# Altium footprint library SMD Diode.PcbLib: 11 footprints
Each footprint in its own frame and in the unit in brackets; x right, y up, seen from the top. Pads: shape width x height; smd on the part's side, far side on the other; paste and mask are expansions set on the pad; w line width, h text height; cw(c..) or ccw(c..) is an arc to the next point about the centre after c.
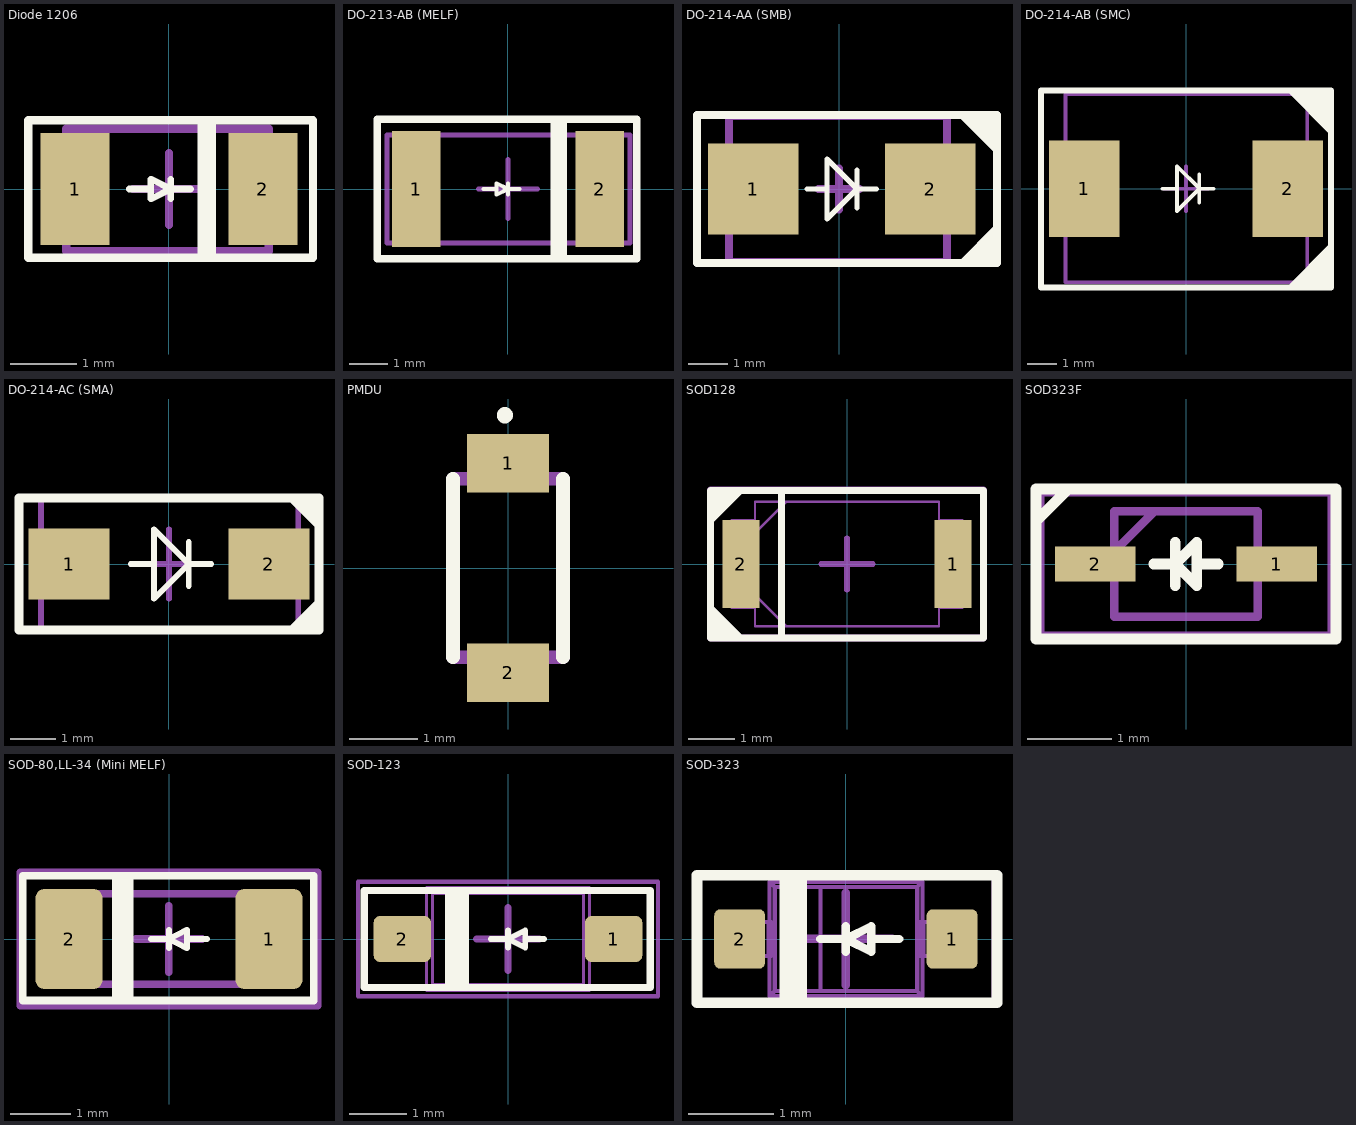
[diagram p0: the footprints below, top view; thin cyan lines are the x and y axes]

## Diode 1206 [mm]
pads (2):
  rect 1.05x1.7 smd: 1(-1.425,0) 2(1.425,0)
Top Overlay:
  rectangle: 0.432,-1.041 0.711,1.041
  lines w0.1: -0.605,0 -0.305,0 ; 0.025,-0.15 0.025,0.15 ; 0.325,0 0.025,0 ; 0.025,0 -0.275,0.15 -0.275,-0.15 0.025,0
  lines w0.127: -2.134,-1.041 -2.134,1.041 2.184,1.041 2.184,-1.041 -2.134,-1.041
Mechanical 15:
  lines w0.127: -0.546,0.001 0.546,0.001 ; 0,-0.546 0,0.546 ; -1.557,-0.945 -1.557,0.914 1.511,0.914 1.511,-0.945 -1.557,-0.945
3D body "User Library-D1206.step": height 0.85, standoff 0, extent -1.67,-0.87 1.68,0.86

## DO-213-AB (MELF) [mm] "Metal Electrode Face (MELF) Diode; Body 5 x 2.5 mm (LxDia)"
height 2.5
pads (2):
  rect 1.25x3 smd: 1(-2.375,0) 2(2.375,0)
Top Overlay:
  rectangle: 1.092,-1.8 1.524,1.8
  lines w0.1: -0.63,0 -0.33,0 ; 0,-0.15 0,0.15 ; 0.3,0 0,0 ; 0,0 -0.3,0.15 -0.3,-0.15 0,0
  lines w0.2: -3.375,-1.8 -3.375,1.8 3.325,1.8 3.325,-1.8 -3.375,-1.8
Mechanical 15:
  lines w0.127: -0.762,0 0.762,0 ; 0,-0.762 0,0.762 ; -3.124,-1.397 3.15,-1.397 3.15,1.397 -3.124,1.397 -3.124,-1.397
3D body "DO-213AB.step": height 2.67, standoff 0, extent -2.6,-1.335 2.6,1.335

## DO-214-AA (SMB) [mm] "DO-214-AA/SMB; 2 C-Bend Leads; Body 5.3 x 3.6 mm, inc. leads (LxW)"
pads (2):
  rect 2.3x2.3 smd: 1(-2.177,0) 2(2.323,0)
Top Overlay:
  region: 4.013,-1.88 2.997,-1.88 4.013,-0.864
  region: 4.013,1.88 4.013,0.864 2.997,1.88
  lines w0.127: -0.813,0 -0.305,0 ; 0.444,-0.003 0.952,-0.003 ; 0.457,-0.483 0.457,0 ; 0.457,0.483 0.457,0 ; 0.457,0 -0.305,-0.762 -0.305,0.762 0.457,0
  lines w0.2: -3.607,-1.88 -3.607,1.88 4.013,1.88 4.013,-1.88 -3.607,-1.88
Mechanical 1:
  lines w0.1: -0.2,0 0.2,0 ; 0,-0.2 0,0.2
Mechanical 15:
  lines w0.2: -0.521,0 0.521,0 ; 0,-0.521 0,0.521 ; -2.794,-1.854 2.743,-1.854 2.743,1.854 -2.794,1.854 -2.794,-1.854
3D body "User Library-DIOM5539X24.STEP": height 2.45, standoff 0.03, extent -2.677,-1.95 2.823,1.95

## DO-214-AB (SMC) [mm] "DO-214-AB/SMC; 2 C-Bend Leads; Body 7.9 x 5.9 mm, inc. leads (LxW)"
height 2.65
pads (2):
  rect 2.4x3.3 smd: 1(-3.475,0) 2(3.475,0)
Top Overlay:
  region: 4.953,3.353 4.953,1.829 3.429,3.353
  region: 4.953,-3.378 3.429,-3.378 4.953,-1.854
  lines w0.127: -0.813,0 -0.305,0 ; 0.444,-0.003 0.952,-0.003 ; 0.457,-0.483 0.457,0 ; 0.457,0.483 0.457,0 ; 0.457,0 -0.305,-0.762 -0.305,0.762 0.457,0
  lines w0.2: -4.953,-3.378 2.223,-3.378 4.953,-3.378 4.953,3.353 1.239,3.353 -4.953,3.353 -4.953,-3.378
Mechanical 1:
  lines w0.1: -0.2,0 0.2,0 ; 0,-0.2 0,0.2
Mechanical 15:
  lines w0.127: -0.762,0 0.762,0 ; 0,-0.762 0,0.762 ; -4.115,-3.2 4.14,-3.2 4.14,3.226 -4.115,3.226 -4.115,-3.2
3D body "User Library-DO-214AB(SMC).STEP": height 2.67, standoff 0.03, extent -4.039,-3.124 4.089,3.175

## DO-214-AC (SMA) [mm]
pads (2):
  rect 1.778x1.55 smd: 1(-2.189,0) 2(2.189,0)
Top Overlay:
  region: 3.289,-1.45 2.555,-1.45 3.289,-0.716
  region: 3.289,1.45 3.289,0.716 2.555,1.45
  lines w0.127: -0.838,0 -0.33,0 ; 0.418,-0.003 0.926,-0.003 ; 0.432,-0.483 0.432,0 ; 0.432,0.483 0.432,0 ; 0.432,0 -0.33,0.762 -0.33,-0.762 0.432,0
  lines w0.2: -3.289,-1.45 -3.289,1.45 0.95,1.45 3.289,1.45 3.289,-1.45 0.876,-1.45 -3.289,-1.45
Mechanical 15:
  lines w0.127: -0.762,0 0.762,0 ; 0,-0.762 0,0.762 ; -2.807,-1.473 2.832,-1.473 2.832,1.473 -2.807,1.473 -2.807,-1.473
3D body "User Library-DO-214AC(SMA).STEP": height 2.29, standoff 0, extent -2.731,-1.397 2.756,1.397

## PMDU [mm]
pads (2):
  rect 1.2x0.85 smd: 1(0,1.525) 2(0,-1.525)
Top Overlay:
  circle w0.2: c-0.045,2.227 r0.018
  lines w0.2: -0.8,-1.3 -0.8,1.3 ; 0.8,-1.3 0.8,1.3
Mechanical 13:
  lines w0.2: -0.8,-1.3 -0.8,1.3 0.8,1.3 0.8,-1.3 -0.8,-1.3
3D body "KDZTR36B.stp": height 0.8, standoff 0, extent -0.8,-1.75 0.8,1.75

## SOD128 [mm]
pads (2):
  rect 0.81x1.905 smd paste+0 mask+0: 1(2.297,0) 2(-2.297,0)
Top Overlay:
  region: -2.96,-0.85 -2.21,-1.6 -2.96,-1.6
  region: -2.21,1.589 -2.96,0.838 -2.96,1.589
  lines w0.152: -1.422,-1.575 -1.422,1.549 ; -2.96,-1.6 2.955,-1.6 2.955,1.589 -2.96,1.589 -2.96,1.409 -2.96,-1.6
Mechanical 1:
  lines w0.051: -1.994,-0.673 -1.321,-1.346 ; -1.994,0.673 -1.321,1.346 ; -2.502,-0.953 -1.994,-0.953 -1.994,0.953 -2.502,0.953 -2.502,-0.953 ; -1.994,-1.346 -1.994,1.346 1.994,1.346 1.994,-1.346 -1.994,-1.346 ; 1.994,-0.953 1.994,0.953 2.502,0.953 2.502,-0.953 1.994,-0.953
Mechanical 15:
  lines w0.127: -0.559,0 0.559,0 ; 0,-0.559 0,0.559
  lines w0.152: -2.956,-1.6 -2.956,-1.206 -2.956,1.206 -2.956,1.6 2.956,1.6 2.956,1.206 2.956,-1.6 2.248,-1.6 -2.956,-1.6
3D body "SDO_CFP5_SOD128_NEX.step": height 1.1, standoff 0, extent -2.502,-1.346 2.502,1.346

## SOD323F [mm]
pads (2):
  rect 0.95x0.42 smd: 1(1.075,0) 2(-1.075,0)
Top Overlay:
  lines w0.127: -1.778,0.508 -1.397,0.889 ; -0.381,0 -0.127,0 ; -0.127,-0.254 -0.127,0.254 ; 0.127,0 0.381,0 ; -0.127,0 0.127,-0.254 0.127,0.254 -0.127,0 ; -1.778,-0.889 -1.778,0.889 1.778,0.889 1.778,-0.889 -1.778,-0.889
Mechanical 13:
  lines w0.1: -0.85,0.15 -0.375,0.625 ; -0.85,-0.625 0.85,-0.625 0.85,0.625 -0.85,0.625 -0.85,-0.625
Mechanical 15:
  lines w0.05: -1.7,-0.825 1.7,-0.825 1.7,0.825 -1.7,0.825 -1.7,-0.825
3D body "DDZ2V4ASF-7.stp": height 0.75, standoff 0, extent -1.25,-0.625 1.25,0.625

## SOD-80,LL-34 (Mini MELF) [mm] "Diode, MiniMELF"
height 1.6
pads (2):
  rrect25% 1.1x1.65 smd: 1(1.65,0) 2(-1.65,0)
Top Overlay:
  rectangle: -0.94,-1.016 -0.584,1.041
  lines w0.1: -0.3,0 0,0 ; 0,-0.15 0,0.15 ; 0.33,0 0.63,0 ; 0,0 0.3,-0.15 0.3,0.15 0,0
  lines w0.127: -2.413,-1.016 -2.413,1.041 2.388,1.041 2.388,-1.016 -2.413,-1.016
Mechanical 13:
  lines w0.127: -1.8,-0.747 -1.8,0.747 1.8,0.747 1.8,-0.747 -1.8,-0.747
Mechanical 15:
  lines w0.127: -0.546,0 0.546,0 ; -0.004,-0.549 -0.004,0.544 ; -2.45,-1.1 -2.45,1.1 2.45,1.1 2.45,-1.1 -2.45,-1.1
3D body "User Library-SOD-80.STEP": height 1.6, standoff 0, extent -1.88,-0.8 1.82,0.8

## SOD-123 [mm] "SOD-123; 2 Leads; Body 2.7 x 1.6 mm, (LxW)"
height 1.35
pads (2):
  rrect25% 1x0.8 smd: 1(1.85,0) 2(-1.85,0)
Top Overlay:
  rectangle: -1.1,-0.85 -0.686,0.85
  lines w0.1: -0.3,0 0,0 ; 0,-0.15 0,0.15 ; 0.33,0 0.63,0 ; 0,0 0.3,0.15 0.3,-0.15 0,0
  lines w0.127: -2.515,-0.85 -2.515,0.85 2.489,0.85 2.489,-0.85 -2.515,-0.85
Mechanical 13:
  lines w0.05: -1.766,-0.308 -1.766,0.308 ; -1.707,-0.308 -1.707,0.308 ; -1.517,-0.308 -1.517,0.308 ; -1.425,-0.308 -1.95,-0.308 -1.95,0.308 -1.425,0.308 ; 1.425,-0.308 1.95,-0.308 1.95,0.308 1.425,0.308 ; 1.517,-0.308 1.517,0.308 ; 1.707,-0.308 1.707,0.308 ; 1.766,-0.308 1.766,0.308 ; -1.425,-0.9 1.425,-0.9 ; -1.425,-0.9 -1.323,-0.798 ; -1.425,-0.9 -1.425,0.9 ; -1.425,0.9 -1.323,0.798 ; -1.425,0.9 1.425,0.9 ; -1.323,-0.798 -1.072,-0.798 ; -1.323,-0.798 -1.323,0.798 ; -1.323,0.798 -1.072,0.798 ; -1.072,-0.798 1.322,-0.797 ; -1.072,-0.798 -1.072,0.798 ; -1.072,0.798 1.322,0.797 ; 1.322,-0.797 1.322,0.797 ; 1.322,-0.797 1.425,-0.9 ; 1.322,0.797 1.425,0.9 ; 1.425,-0.9 1.425,0.9
Mechanical 15:
  lines w0.076: -2.625,-1 2.625,-1 2.625,1 -2.625,1 -2.625,-1
  lines w0.127: -0.546,0 0.546,0 ; 0,-0.546 0,0.546
3D body "User Library-SOD-123.STEP": height 1.25, standoff 0, extent -1.849,-0.8 1.849,0.8

## SOD-323 [mm] "SOD-323; 2 Leads; Body 1.8 x 1.35 mm, (LxW)"
height 1.15
pads (2):
  rrect25% 0.6x0.7 smd: 1(1.25,0) 2(-1.25,0)
Top Overlay:
  rectangle: -0.782,-0.711 -0.457,0.739
  lines w0.1: -0.3,0 0,0 ; 0,-0.15 0,0.15 ; 0.33,0 0.63,0 ; 0,0 0.3,0.15 0.3,-0.15 0,0
  lines w0.127: -1.753,-0.75 -1.753,0.75 1.778,0.75 1.778,-0.75 -1.753,-0.75
Mechanical 13:
  lines w0.05: -1.157,-0.2 -1.157,0.2 ; -1.11,-0.2 -1.11,0.2 ; -0.91,-0.2 -0.91,0.2 ; -0.9,-0.2 -0.9,-0.675 ; -0.9,0.2 -0.9,0.675 ; 0.9,-0.2 0.9,-0.675 ; 0.9,0.2 0.9,0.675 ; 0.91,-0.2 0.91,0.2 ; 1.11,-0.2 1.11,0.2 ; 1.157,-0.2 1.157,0.2 ; -0.9,-0.675 -0.838,-0.613 ; -0.9,-0.675 0.9,-0.675 ; -0.9,0.675 0.9,0.675 ; -0.9,0.675 -0.838,0.613 ; -0.838,-0.613 -0.838,0.613 ; -0.838,-0.613 -0.3,-0.613 ; -0.838,0.613 -0.3,0.613 ; -0.3,-0.613 -0.3,0.613 ; -0.3,-0.613 0.838,-0.613 ; -0.3,0.613 0.838,0.613 ; 0.838,-0.613 0.838,0.613 ; 0.838,-0.613 0.9,-0.675 ; 0.838,0.613 0.9,0.675 ; -1.3,-0.2 -1.3,0.2 -0.879,0.2 -0.879,-0.2 -1.3,-0.2 ; 0.879,-0.2 1.3,-0.2 1.3,0.2 0.879,0.2 0.879,-0.2
Mechanical 15:
  lines w0.076: -1.75,-0.737 -1.75,0.737 1.75,0.737 1.75,-0.737 -1.75,-0.737
  lines w0.1: -0.549,0.001 0.543,0.001 ; -0.003,-0.545 -0.003,0.547
3D body "User Library-SOD323.STEP": height 0.95, standoff -0.04, extent -1.25,-0.625 1.25,0.625